# Altium integrated library Capacitors.IntLib: 24 symbols
Pins are listed as number, name and electrical type; pins without a type are passive.

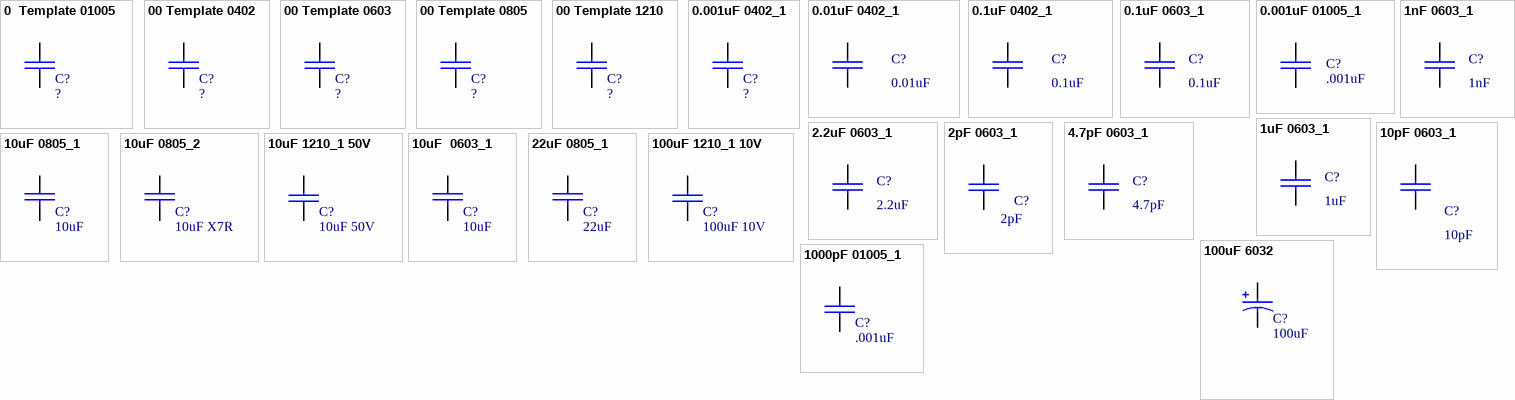
[diagram p0: symbols 0  Template 01005 to 1000pF 01005_1]

## 0  Template 01005
designator C?, comment ?
Val  01005  V  %  Material; Fabrication Tested: NO; Creator and Date: *; Footprint Verified By: *; Schematic Verified By: *; Vendor Info Verified By: *; Value: ?
simulation model CAP (Default semiconductor capacitor)
footprint 0402metric [01005 ] Cap Ceramic 0402X02L (Chip Capacitor, 2-Leads, Body 0.4x0.2mm, IPC High Density)
pins: 1, 2

## 00 Template 0402
designator C?, comment ?
Val  0402  V  %  Material; Fabrication Tested: NO; Creator and Date: *; Footprint Verified By: *; Schematic Verified By: *; Vendor Info Verified By: *; Value: ?
simulation model CAP (Default semiconductor capacitor)
footprint 1005[0402] - CAP CERAMIC (Chip Capacitor; Body 1.0 x 0.5 mm (LxW typ))
pins: 1, 2

## 00 Template 0603
designator C?, comment ?
Val  0603  V  %  Material; Fabrication Tested: NO; Creator and Date: *; Footprint Verified By: *; Schematic Verified By: *; Vendor Info Verified By: *; Value: ?
simulation model CAP (Default semiconductor capacitor)
footprint 1608[0603] - Cap Ceramic (Chip Capacitor; Body 1.6 x 0.8 mm (LxW typ))
pins: 1, 2

## 00 Template 0805
designator C?, comment ?
Val  0805  V  %  Material; Fabrication Tested: NO; Creator and Date: *; Footprint Verified By: *; Schematic Verified By: *; Vendor Info Verified By: *; Value: ?
simulation model CAP (Default semiconductor capacitor)
footprint 2012[0805] (Chip Resistor; Body 2.0 x 1.3 mm (LxW typ))
pins: 1, 2

## 00 Template 1210
designator C?, comment ?
Val  1210  V  %  Material; Fabrication Tested: NO; Creator and Date: *; Footprint Verified By: *; Schematic Verified By: *; Vendor Info Verified By: *; Value: ?
simulation model CAP (Default semiconductor capacitor)
footprint 3225[1210] (Chip Resistor; Body 3.2 x 2.5 mm (LxW typ))
pins: 1, 2

## 0.001uF 0402_1
designator C?, comment ?
0.001uF  0402  50V  10%  X7R; Fabrication Tested: NO; Creator and Date: *; Footprint Verified By: *; Schematic Verified By: *; Vendor Info Verified By: *; Value: ?; Supplier 1: Digi-Key; Supplier Part Number 1: 445-1256-1-ND
simulation model CAP (Default semiconductor capacitor)
footprint 1005[0402] - CAP CERAMIC (Chip Capacitor; Body 1.0 x 0.5 mm (LxW typ))
pins: 1, 2

## 0.01uF 0402_1
designator C?, comment 0.01uF
0.01uF  0402  25V  10%  X7R; Fabrication Tested: NO; Creator and Date: *; Footprint Verified By: *; Schematic Verified By: *; Vendor Info Verified By: *; Value: 0.01uF; Supplier 1: Digi-Key; Supplier 2: Newark; Supplier Part Number 1: 399-1278-1-ND; Supplier Part Number 2: 94C0823
simulation model CAP (Default semiconductor capacitor)
footprint 1005[0402] - CAP CERAMIC (Chip Capacitor; Body 1.0 x 0.5 mm (LxW typ))
pins: 1, 2

## 0.1uF 0402_1
designator C?, comment 0.1uF
0.1uF 0402 10V 10% X5R; Fabrication Tested: NO; Creator and Date: Will Flanery 2010-02-11; Footprint Verified By: *; Schematic Verified By: *; Vendor Info Verified By: *; Value: 0.1uF; Supplier 1: Digi-Key; Supplier Part Number 1: 490-1318-1-ND
simulation model CAP (Default semiconductor capacitor)
footprint 1005[0402] - CAP CERAMIC (Chip Capacitor; Body 1.0 x 0.5 mm (LxW typ))
pins: 1, 2

## 0.1uF 0603_1
designator C?, comment 0.1uF
0.1uF 0603  25V  10%  X7R; Fabrication Tested: NO; Creator and Date: Will Flanery 3/19/2010; Footprint Verified By: *; Schematic Verified By: *; Vendor Info Verified By: *; Value: 0.1uF; Supplier 1: Digi-Key; Supplier Part Number 1: 445-1316-1-ND
simulation model CAP (Default semiconductor capacitor)
footprint 1608[0603] - Cap Ceramic (Chip Capacitor; Body 1.6 x 0.8 mm (LxW typ))
pins: 1, 2

## 0.001uF 01005_1
designator C?, comment .001uF
0.001uF  01005  10V  10%  X5R; Fabrication Tested: NO; Creator and Date: *; Footprint Verified By: *; Schematic Verified By: *; Vendor Info Verified By: *; Supplier 1: Digi-Key; Supplier Part Number 1: 587-2299-1-ND; Value: .001uF
simulation model CAP (Default semiconductor capacitor)
footprint 0402metric [01005 ] Cap Ceramic 0402X02L (Chip Capacitor, 2-Leads, Body 0.4x0.2mm, IPC High Density)
pins: 1, 2

## 1nF 0603_1
designator C?, comment 1nF
1nF 0603 V  5%  X7R; Fabrication Tested: NO; Creator and Date: Will Flanery 2010-02-12; Footprint Verified By: *; Schematic Verified By: *; Vendor Info Verified By: *; Value: 1nF; Supplier 1: Digi-Key; Supplier Part Number 1: 445-5079-1-ND
simulation model CAP (Default semiconductor capacitor)
footprint 1608[0603] - Cap Ceramic (Chip Capacitor; Body 1.6 x 0.8 mm (LxW typ))
pins: 1, 2

## 1uF 0603_1
designator C?, comment 1uF
1.0uF 0603  10V  10%  X5R; Fabrication Tested: NO; Creator and Date: Will Flanery 2010-02-12; Footprint Verified By: *; Schematic Verified By: *; Vendor Info Verified By: *; Value: 1uF; Supplier 1: Digi-Key; Supplier Part Number 1: 490-1543-1-ND
simulation model CAP (Default semiconductor capacitor)
footprint 1608[0603] - Cap Ceramic (Chip Capacitor; Body 1.6 x 0.8 mm (LxW typ))
pins: 1, 2

## 2.2uF 0603_1
designator C?, comment 2.2uF
2.2uF 0603 10 V  +-20% X5R; Fabrication Tested: NO; Creator and Date: *; Footprint Verified By: *; Schematic Verified By: *; Vendor Info Verified By: *; Value: 2.2uF; Supplier 1: Digi-Key; Supplier Part Number 1: 445-5167-1-ND
simulation model CAP (Default semiconductor capacitor)
footprint 1608[0603] - Cap Ceramic (Chip Capacitor; Body 1.6 x 0.8 mm (LxW typ))
pins: 1, 2

## 2pF 0603_1
designator C?, comment 2pF
2pF 0603  50V  15%  COG; Fabrication Tested: NO; Creator and Date: Will Flanery; Footprint Verified By: *; Schematic Verified By: *; Vendor Info Verified By: *; Supplier 1: Digi-Key; Supplier Part Number 1: 490-1379-1-ND; Value: 2pF
simulation model CAP (Default semiconductor capacitor)
footprint 1608[0603] - Cap Ceramic (Chip Capacitor; Body 1.6 x 0.8 mm (LxW typ))
pins: 1, 2

## 4.7pF 0603_1
designator C?, comment 4.7pF
4.7pF 0603  50V  5%  C0G; Fabrication Tested: NO; Creator and Date: *; Footprint Verified By: *; Schematic Verified By: *; Vendor Info Verified By: *; Value: 4.7pF; Supplier 1: Digi-Key; Supplier Part Number 1: 490-1389-1-ND
simulation model CAP (Default semiconductor capacitor)
footprint 1608[0603] - Cap Ceramic (Chip Capacitor; Body 1.6 x 0.8 mm (LxW typ))
pins: 1, 2

## 10pF 0603_1
designator C?, comment 10pF
10pF 0603 50V  5%  NP0; Fabrication Tested: NO; Creator and Date: Will Flanery 2010-02-12; Footprint Verified By: *; Schematic Verified By: *; Vendor Info Verified By: *; Value: 10pF; Supplier 1: Digi-Key; Supplier Part Number 1: 399-1049-1-ND
simulation model CAP (Default semiconductor capacitor)
footprint 1608[0603] - Cap Ceramic (Chip Capacitor; Body 1.6 x 0.8 mm (LxW typ))
pins: 1, 2

## 10uF 0805_1
designator C?, comment 10uF
10uF 0805 10V -20%+80% Y5V; Fabrication Tested: NO; Creator and Date: Will Flanery 2010-02-11; Footprint Verified By: *; Schematic Verified By: *; Vendor Info Verified By: *; Supplier 1: Digi-Key; Supplier Part Number 1: 587-1312-1-ND; Value: 10uF
simulation model CAP (Default semiconductor capacitor)
footprint 2012[0805] (Chip Resistor; Body 2.0 x 1.3 mm (LxW typ))
pins: 1, 2

## 10uF 0805_2
designator C?, comment 10uF X7R
10uF 0805 10V 10% X7R; Fabrication Tested: NO; Creator and Date: Will Flanery 2010-07-13; Footprint Verified By: *; Schematic Verified By: *; Vendor Info Verified By: *; Value: 10uF X7R; Supplier 1: Digi-Key; Supplier Part Number 1: 490-3905-1-ND
simulation model CAP (Default semiconductor capacitor)
footprint 0805 (Chip Capacitor; Body 2.0 x 1.2 mm (LxW typ))
pins: 1, 2

## 10uF 1210_1 50V
designator C?, comment 10uF 50V
10uF 1210  50V  10%  X7S; Fabrication Tested: NO; Creator and Date: *; Footprint Verified By: *; Schematic Verified By: *; Vendor Info Verified By: *; Value: 10uF 50V; Supplier 1: Digi-Key; Supplier Part Number 1: 445-4536-1-ND
simulation model CAP (Default semiconductor capacitor)
footprint 1210 (Chip Capacitor; Body 3.2 x 2.5 mm (LxW typ))
pins: 1, 2

## 10uF  0603_1
designator C?, comment 10uF
10uF 0603 6.3V 20% X5R; Fabrication Tested: NO; Creator and Date: Will Flanery 2010-02-11; Footprint Verified By: *; Schematic Verified By: *; Vendor Info Verified By: *; Supplier 1: Digi-Key; Supplier Part Number 1: 490-3896-1-ND; Value: 10uF
simulation model CAP (Default semiconductor capacitor)
footprint 1608[0603] - Cap Ceramic (Chip Capacitor; Body 1.6 x 0.8 mm (LxW typ))
pins: 1, 2

## 22uF 0805_1
designator C?, comment 22uF
22uF 0805 10V 20% X5R; Fabrication Tested: NO; Creator and Date: Will Flanery 2010-07-13; Footprint Verified By: *; Schematic Verified By: *; Vendor Info Verified By: *; Value: 22uF; Supplier 1: Digi-Key; Supplier Part Number 1: 587-1958-1-ND
simulation model CAP (Default semiconductor capacitor)
footprint 0805 (Chip Capacitor; Body 2.0 x 1.2 mm (LxW typ))
pins: 1, 2

## 100uF 1210_1 10V
designator C?, comment 100uF 10V
100uF 1210  10V  20%  X5R; Fabrication Tested: NO; Creator and Date: Will Flanery 2010-07-14; Footprint Verified By: *; Schematic Verified By: *; Vendor Info Verified By: *; Value: 100uF 10V; Supplier 1: Digi-Key; Supplier Part Number 1: 587-1965-1-ND
simulation model CAP (Default semiconductor capacitor)
footprint 1210 (Chip Capacitor; Body 3.2 x 2.5 mm (LxW typ))
pins: 1, 2

## 100uF 6032
designator C?, comment 100uF
100uF  6032 16 V  10%  Tant; Fabrication Tested: NO; Creator and Date: Will Flanery 2010-07-09; Footprint Verified By: *; Schematic Verified By: *; Vendor Info Verified By: *; Supplier 1: Digi-Key; Supplier Part Number 1: 399-5214-1-ND; Value: 100uF
simulation model CAP (Default semiconductor capacitor)
footprint C (Capacitor, SM Tantalum; Body 6.0 x 3.2 mm (LxW typ))
pins: 1 Annode, 2

## 1000pF 01005_1
designator C?, comment .001uF
0.001uF  01005  10V  10%  X5R; Fabrication Tested: NO; Creator and Date: *; Footprint Verified By: *; Schematic Verified By: *; Vendor Info Verified By: *; Supplier 1: Digi-Key; Supplier Part Number 1: 587-2299-1-ND; Value: .001uF
simulation model CAP (Default semiconductor capacitor)
footprint 0402metric [01005 ] Cap Ceramic 0402X02L (Chip Capacitor, 2-Leads, Body 0.4x0.2mm, IPC High Density)
pins: 1, 2